# Altium schematic symbol library RES_Adj.SchLib: 1 symbol
Pins are listed as number, name and electrical type; pins without a type are passive.

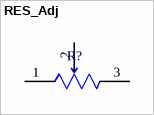
[diagram p0: symbol RES_Adj]

## RES_Adj
designator R?, comment 10K  (value not drawn)
footprint RES_Adj_3296W_Bourns
pins: 1 CCW, 2 WIPER, 3 CW